# Altium schematic symbol library LevelConversors.SchLib: 4 symbols
Pins are listed as number, name and electrical type; pins without a type are passive.

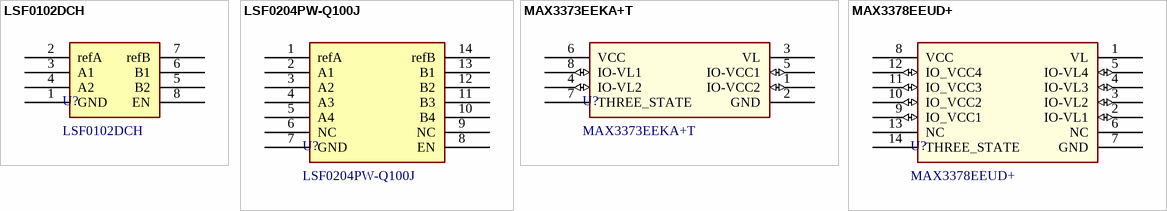
[diagram p0: symbols LSF0102DCH to MAX3378EEUD+]

## LSF0102DCH
designator U?
Voltage Level Translator Bidirectional 1 Circuit 2 Channel 100MHz 8-VSSOP; Supplier 1: Digi-Key; Supplier Part Number 1: 1727-LSF0102DCHCT-ND
pins: 1 GND, 2 refA, 3 A1, 4 A2, 5 B2, 6 B1, 7 refB, 8 EN

## LSF0204PW-Q100J
designator U?
Nivel de voltaje Traductores Bidireccional 1 circuitos 4 canales 120MHz 14-TSSOP; Supplier 1: Digi-Key; Supplier Part Number 1: 1727-LSF0204PW-Q100JCT-ND
footprint TSOP65P640X110-14N (TSOP, 14-Leads, Body 5.00x4.40mm, Pitch 0.65mm, IPC Medium Density)
pins: 1 refA, 2 A1, 3 A2, 4 A3, 5 A4, 6 NC, 7 GND, 8 EN, 9 NC, 10 B4, 11 B3, 12 B2, 13 B1, 14 refB

## MAX3373EEKA+T
designator U?
MAXIM INTEGRATED PRODUCTS   MAX3373EEKA+T.   IC, DUAL, VOLT LEVEL,TRANSLAT,8SOT23; Product Training Modules: Lead (SnPb) Finish for COTS / Long-Term Supply Program; Logic Function: Translator, Bidirectional, 3-State, Open Drain; Number of Bits: 2; Input Type: Logic; Data Rate: 16Mbps; Number of Outputs/Channel: 1; Differential - Input:Output: No/No; Propagation Delay (Max): 15ns; Voltage - Supply: 1.65 V ~ 5.5 V; Dynamic Catalog: MAX3372E–MAX3379E/MAX3390E–MAX3393E; Other Names: MAX3373EEKA+TDKR; Supplier 1: Digi-Key; Manufacturer: Maxim; Manufacturer Part Number: MAX3373EEKA+T; Stock 1: 2748; Pricing 1: 1=3.05, 10=2.742, 25=2.592, 100=2.2464, 250=2.1312, 500=1.9123, 1000=1.664 (USD); Standard Package: 1; Category: Integrated Circuits (ICs); Family: Logic - Translators; Series: -; Output Type: Logic; Number of Channels: 2; Operating Temperature: -40°C ~ 85°C; Package / Case: SOT-23-8; Supplier Device Package: SOT-23-8; Packaging: Digi-Reel®; ComponentLink1URL: http://www.farnell.com/datasheets/1804639.pdf?src-supplier=Element14; ComponentLink1Description: http://www.farnell.com/datasheets/1804639.pdf?src-supplier=Element14; ComponentLink2URL: http://datasheets.maxim-ic.com/en/ds/MAX3372E-MAX3393E.pdf?src-supplier=Avnet; ComponentLink2Description: http://datasheets.maxim-ic.com/en/ds/MAX3372E-MAX3393E.pdf?src-supplier=Avnet; ComponentLink3URL: http://datasheets.maxim-ic.com/en/ds/MAX3372E-MAX3393E.pdf?src-supplier=Avnet+Europe; ComponentLink3Description: http://datasheets.maxim-ic.com/en/ds/MAX3372E-MAX3393E.pdf?src-supplier=Avnet+Europe; ComponentLink4URL: https://media.digikey.com/pdf/Data%20Sheets/Maxim%20PDFs/PartNumberBreakdown_ds.pdf?src-supplier=Digi-Key; ComponentLink4Description: https://media.digikey.com/pdf/Data%20Sheets/Maxim%20PDFs/PartNumberBreakdown_ds.pdf?src-supplier=Digi-Key; ComponentLink5URL: https://datasheets.maximintegrated.com/en/ds/MAX3372E-MAX3393E.pdf?src-supplier=Digi-Key; ComponentLink5Description: https://datasheets.maximintegrated.com/en/ds/MAX3372E-MAX3393E.pdf?src-supplier=Digi-Key; ComponentLink6URL: http://datasheet.iiic.cc/maxim/MAX3373EEKA_T.pdf?src-supplier=IIIC; ComponentLink6Description: http://datasheet.iiic.cc/maxim/MAX3373EEKA_T.pdf?src-supplier=IIIC; Supplier Part Number 1: MAX3373EEKA+TCT-ND
pins: 1 IO-VCC2 (io), 2 GND (power), 3 VL (power), 4 IO-VL2 (io), 5 IO-VCC1 (io), 6 VCC (power), 7 THREE_STATE (power), 8 IO-VL1 (io)

## MAX3378EEUD+
designator U?
MAX3378 Series 1.65 to 5.5 V 16 Mbps Low-Voltage Level Translator - TSSOP-14; Manufacturer: Maxim; Logic Family: MAX33; Maximum High Level Output Current: 20 / µA; Maximum Operating Supply Voltage: 5.5 / V; Maximum Propagation Delay Time @ Maximum CL: 30 / ns; Minimum Operating Supply Voltage: 1.65 / V; Number of Elements per Chip: 4; Propagation Delay Test Condition: 15 / pF; Supplier 1: Digi-Key; Manufacturer Part Number: MAX3378EEUD+; Stock 1: 1477; Pricing 1: 1=4.25, 10=3.813, 25=3.6044, 100=3.1239, 250=2.9637, 500=2.6593, 1000=2.314 (USD); Dimensions: 5.10 x 4.50 x 1.05 / mm; Height: 1.05 / mm; Length: 5.1 / mm; Logic Function: Voltage Level Translator; Maximum Low Level Output Current: 20 / µA; Maximum Operating Temperature: +85 / °C; Minimum Operating Temperature: -40 / °C; Mounting Type: Surface Mount; Operating Supply Voltage Range: 1.65 to 5.5 / V; Operating Temperature Range: -40 to +85 / °C; Package Type: TSSOP; Pin Count: 14; Type: Level Translators; Width: 4.5 / mm; ComponentLink1URL: http://www.farnell.com/datasheets/1726416.pdf?src-supplier=Element14; ComponentLink1Description: http://www.farnell.com/datasheets/1726416.pdf?src-supplier=Element14; ComponentLink2URL: http://datasheets.maxim-ic.com/en/ds/MAX3372E-MAX3393E.pdf?src-supplier=Avnet; ComponentLink2Description: http://datasheets.maxim-ic.com/en/ds/MAX3372E-MAX3393E.pdf?src-supplier=Avnet; ComponentLink3URL: http://datasheets.maxim-ic.com/en/ds/MAX3372E-MAX3393E.pdf?src-supplier=Avnet+Europe; ComponentLink3Description: http://datasheets.maxim-ic.com/en/ds/MAX3372E-MAX3393E.pdf?src-supplier=Avnet+Europe; ComponentLink4URL: https://media.digikey.com/pdf/Data%20Sheets/Maxim%20PDFs/PartNumberBreakdown_ds.pdf?src-supplier=Digi-Key; ComponentLink4Description: https://media.digikey.com/pdf/Data%20Sheets/Maxim%20PDFs/PartNumberBreakdown_ds.pdf?src-supplier=Digi-Key; ComponentLink5URL: http://datasheet.iiic.cc/maxim/MAX3378EEUD_.pdf?src-supplier=IIIC; ComponentLink5Description: http://datasheet.iiic.cc/maxim/MAX3378EEUD_.pdf?src-supplier=IIIC; Supplier Part Number 1: MAX3378EEUD+-ND
pins: 1 VL (power), 2 IO-VL1 (io), 3 IO-VL2 (io), 4 IO-VL3 (io), 5 IO-VL4 (io), 6 NC, 7 GND (power), 8 VCC (power), 9 IO_VCC1 (io), 10 IO_VCC2 (io), 11 IO_VCC3 (io), 12 IO_VCC4 (io), 13 NC, 14 THREE_STATE